# EAGLE library part RASPBERRY_PI_B/B+ (library raspberry-pi)
Raspberry Pi B+ Base data created by Tim Rettmann 07-2014. It can be downladed from here <https://www.mikrocontroller.net/topic/339008>.
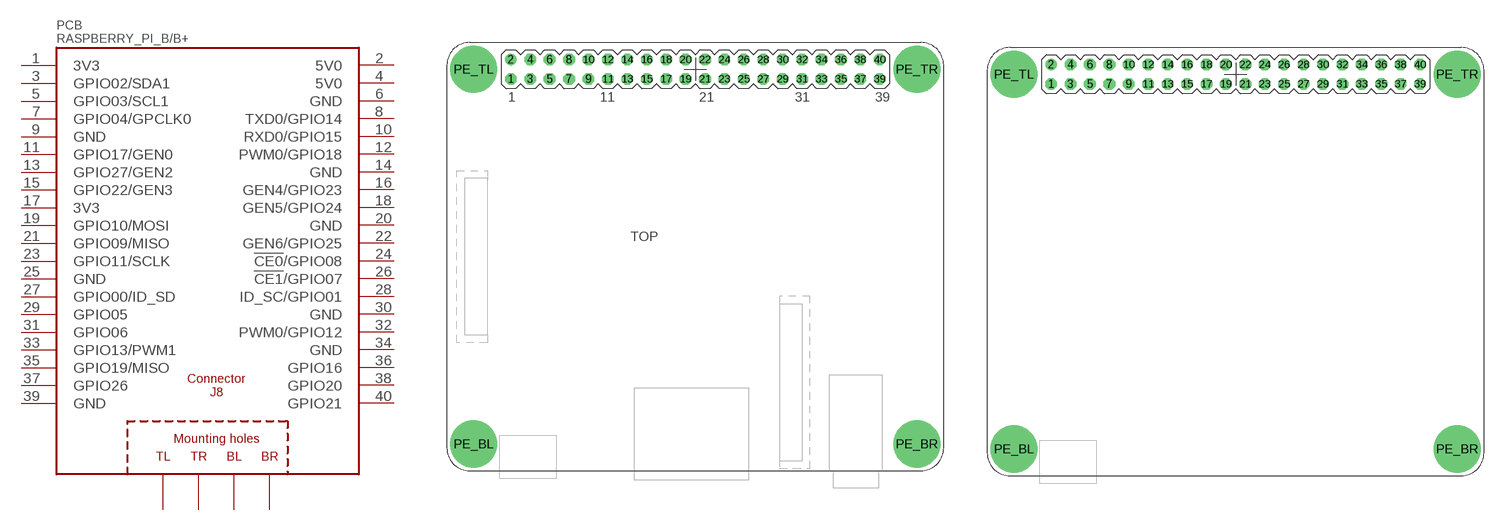
[diagram p0: symbol with the pads of RASPBERRY_PI_B+_SMALL; footprints RASPBERRY_PI_B+_SMALL, RASPBERRY_PI_B+_SMALL-ONLY_POWER]

Designator prefix PCB

## RASPBERRY_PI_B/B+_SMALL  [RASPBERRY_PI_B+_SMALL]
1  3V3  pwr
2  5V0  pwr
3  GPIO02/SDA1
4  5V0  pwr
5  GPIO03/SCL1
6  GND  pwr
7  GPIO04/GPCLK0
8  TXD0/GPIO14
9  GND  pwr
10  RXD0/GPIO15
11  GPIO17/GEN0
12  PWM0/GPIO18
13  GPIO27/GEN2
14  GND  pwr
15  GPIO22/GEN3
16  GEN4/GPIO23
17  3V3  pwr
18  GEN5/GPIO24
19  GPIO10/MOSI
20  GND  pwr
21  GPIO09/MISO
22  GEN6/GPIO25
23  GPIO11/SCLK
24  !CE0!/GPIO08
25  GND  pwr
26  !CE1!/GPIO07
27  GPIO00/ID_SD
28  ID_SC/GPIO01
29  GPIO05
30  GND  pwr
31  GPIO06
32  PWM0/GPIO12
33  GPIO13/PWM1
34  GND  pwr
35  GPIO19/MISO
36  GPIO16
37  GPIO26
38  GPIO20
39  GND  pwr
40  GPIO21
PE_BL  BL
PE_BR  BR
PE_TL  TL
PE_TR  TR

## RASPBERRY_PI_B/B+_SMALL-ONLY_POWER  [RASPBERRY_PI_B+_SMALL-ONLY_POWER]
Pads as for RASPBERRY_PI_B+_SMALL

## RASPBERRY_PI_B/B+_SMALL-WITHOUT_COMPONENTS  [RASPBERRY_PI_B+_SMALL-WITHOUT_COMPONENTS]
Pads as for RASPBERRY_PI_B+_SMALL

## RASPBERRY_PI_B/B+_BIG-DIM  [RASPBERRY_PI_B+_BIG-DIM]
Pads as for RASPBERRY_PI_B+_SMALL

## Footprint RASPBERRY_PI_B+_SMALL (pad centres in mm)
Raspberry PI B+ small Layout Layout of Pi B+ with Dimensions. This Layout is slightly smaller than the Raspberry PI. It does not include ethernet Jack and USB-ports.
drill 1.016 octagon: 1 8.37,51.23; 3 10.91,51.23; 4 10.91,53.77; 5 13.45,51.23; 6 13.45,53.77; 7 15.99,51.23; 8 15.99,53.77; 9 18.53,51.23; 10 18.53,53.77; 11 21.07,51.23; 12 21.07,53.77; 13 23.61,51.23; 14 23.61,53.77; 15 26.15,51.23; 16 26.15,53.77; 17 28.69,51.23; 18 28.69,53.77; 19 31.23,51.23; 20 31.23,53.77; 21 33.77,51.23; 22 33.77,53.77; 23 36.31,51.23; 24 36.31,53.77; 25 38.85,51.23; 26 38.85,53.77; 27 41.39,51.23; 28 41.39,53.77; 29 43.93,51.23; 30 43.93,53.77; 31 46.47,51.23; 32 46.47,53.77; 33 49.01,51.23; 34 49.01,53.77; 35 51.55,51.23; 36 51.55,53.77; 37 54.09,51.23; 38 54.09,53.77; 39 56.63,51.23; 40 56.63,53.77
drill 1.016: 2 8.37,53.77
drill 2.75 pad 6.2: PE_BL 3.5,3.5; PE_BR 61.5,3.5; PE_TL 3.5,52.5; PE_TR 61.5,52.5

## Footprint RASPBERRY_PI_B+_SMALL-ONLY_POWER (pad centres in mm)
Raspberry PI B+ small Layout Layout of Pi B+ with Dimensions. This Layout is slightly smaller than the Raspberry PI. It does not include ethernet Jack and USB-ports size wise. The Layout also dn't include outline of other components, except the power-port.
drill 1.016 octagon: 1 8.37,51.23; 3 10.91,51.23; 4 10.91,53.77; 5 13.45,51.23; 6 13.45,53.77; 7 15.99,51.23; 8 15.99,53.77; 9 18.53,51.23; 10 18.53,53.77; 11 21.07,51.23; 12 21.07,53.77; 13 23.61,51.23; 14 23.61,53.77; 15 26.15,51.23; 16 26.15,53.77; 17 28.69,51.23; 18 28.69,53.77; 19 31.23,51.23; 20 31.23,53.77; 21 33.77,51.23; 22 33.77,53.77; 23 36.31,51.23; 24 36.31,53.77; 25 38.85,51.23; 26 38.85,53.77; 27 41.39,51.23; 28 41.39,53.77; 29 43.93,51.23; 30 43.93,53.77; 31 46.47,51.23; 32 46.47,53.77; 33 49.01,51.23; 34 49.01,53.77; 35 51.55,51.23; 36 51.55,53.77; 37 54.09,51.23; 38 54.09,53.77; 39 56.63,51.23; 40 56.63,53.77
drill 1.016: 2 8.37,53.77
drill 2.75 pad 6.2: PE_BL 3.5,3.5; PE_BR 61.5,3.5; PE_TL 3.5,52.5; PE_TR 61.5,52.5

## Footprint RASPBERRY_PI_B+_SMALL-WITHOUT_COMPONENTS (pad centres in mm)
Raspberry PI B+ small Layout Layout of Pi B+ with Dimensions. This Layout is slightly smaller than the Raspberry PI. It does not include ethernet Jack and USB-ports size wise. The Layout also dn't include outline of other components.
drill 1.016 square: 1 8.37,51.23
drill 1.016: 2 8.37,53.77; 3 10.91,51.23; 4 10.91,53.77; 5 13.45,51.23; 6 13.45,53.77; 7 15.99,51.23; 8 15.99,53.77; 9 18.53,51.23; 10 18.53,53.77; 11 21.07,51.23; 12 21.07,53.77; 13 23.61,51.23; 14 23.61,53.77; 15 26.15,51.23; 16 26.15,53.77; 17 28.69,51.23; 18 28.69,53.77; 19 31.23,51.23; 20 31.23,53.77; 21 33.77,51.23; 22 33.77,53.77; 23 36.31,51.23; 24 36.31,53.77; 25 38.85,51.23; 26 38.85,53.77; 27 41.39,51.23; 28 41.39,53.77; 29 43.93,51.23; 30 43.93,53.77; 31 46.47,51.23; 32 46.47,53.77; 33 49.01,51.23; 34 49.01,53.77; 35 51.55,51.23; 36 51.55,53.77; 37 54.09,51.23; 38 54.09,53.77; 39 56.63,51.23; 40 56.63,53.77
drill 2.75 pad 6.2: PE_BL 3.5,3.5; PE_BR 61.5,3.5; PE_TL 3.5,52.5; PE_TR 61.5,52.5

## Footprint RASPBERRY_PI_B+_BIG-DIM (pad centres in mm)
Raspberry PI B+ Layout Layout of Pi B+ with Dimensions
drill 1.016 square: 1 8.37,51.23
drill 1.016: 2 8.37,53.77; 3 10.91,51.23; 4 10.91,53.77; 5 13.45,51.23; 6 13.45,53.77; 7 15.99,51.23; 8 15.99,53.77; 9 18.53,51.23; 10 18.53,53.77; 11 21.07,51.23; 12 21.07,53.77; 13 23.61,51.23; 14 23.61,53.77; 15 26.15,51.23; 16 26.15,53.77; 17 28.69,51.23; 18 28.69,53.77; 19 31.23,51.23; 20 31.23,53.77; 21 33.77,51.23; 22 33.77,53.77; 23 36.31,51.23; 24 36.31,53.77; 25 38.85,51.23; 26 38.85,53.77; 27 41.39,51.23; 28 41.39,53.77; 29 43.93,51.23; 30 43.93,53.77; 31 46.47,51.23; 32 46.47,53.77; 33 49.01,51.23; 34 49.01,53.77; 35 51.55,51.23; 36 51.55,53.77; 37 54.09,51.23; 38 54.09,53.77; 39 56.63,51.23; 40 56.63,53.77
drill 2.75 pad 6.2: PE_BL 3.5,3.5; PE_BR 61.5,3.5; PE_TL 3.5,52.5; PE_TR 61.5,52.5